# EAGLE library part 61002421121 (library Board-to-Board (rev18a))
WR-PHD 2.54mm Dual SMT Pin Header, 24 Pins =>Code : Con_BTB_PHD_2.54_2_61002421121 <http://katalog.we-online.de/media/images/eican/Con_BTB_PHD_2.54_2_6100xx21121_pf2.jpg> Details see: http://katalog.we-online.de/en/em/610_0xx_211_21 Created 2014-05-29, Karrer Zheng 2014 (C) Würth Elektronik
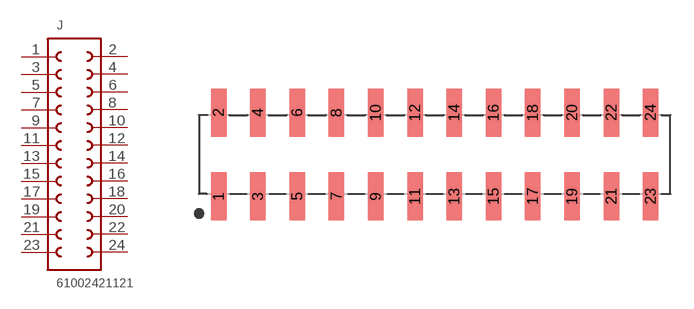
[diagram p82: symbol with the pads of 61002421121; footprint 61002421121]

Designator prefix J

## 61002421121  [61002421121]
1  1  pas
2  24  pas
3  2  pas
4  23  pas
5  3  pas
6  22  pas
7  4  pas
8  21  pas
9  5  pas
10  20  pas
11  6  pas
12  19  pas
13  7  pas
14  18  pas
15  8  pas
16  17  pas
17  9  pas
18  16  pas
19  10  pas
20  15  pas
21  11  pas
22  14  pas
23  12  pas
24  13  pas

## Footprint 61002421121 (pad centres in mm)
WR-PHD 2.54mm Dual SMT Pin Header, 24 Pins
smd 1 x 3.1: 1 -13.97,-2.7; 2 -13.97,2.7; 3 -11.43,-2.7; 4 -11.43,2.7; 5 -8.89,-2.7; 6 -8.89,2.7; 7 -6.35,-2.7; 8 -6.35,2.7; 9 -3.81,-2.7; 10 -3.81,2.7; 11 -1.27,-2.7; 12 -1.27,2.7; 13 1.27,-2.7; 14 1.27,2.7; 15 3.81,-2.7; 16 3.81,2.7; 17 6.35,-2.7; 18 6.35,2.7; 19 8.89,-2.7; 20 8.89,2.7; 21 11.43,-2.7; 22 11.43,2.7; 23 13.97,-2.7; 24 13.97,2.7